# Altium footprint library JSM2512S05.PcbLib: 1 footprints
Each footprint in its own frame and in the unit in brackets; x right, y up, seen from the top. Pads: shape width x height; smd on the part's side, far side on the other; paste and mask are expansions set on the pad; w line width, h text height; cw(c..) or ccw(c..) is an arc to the next point about the centre after c.
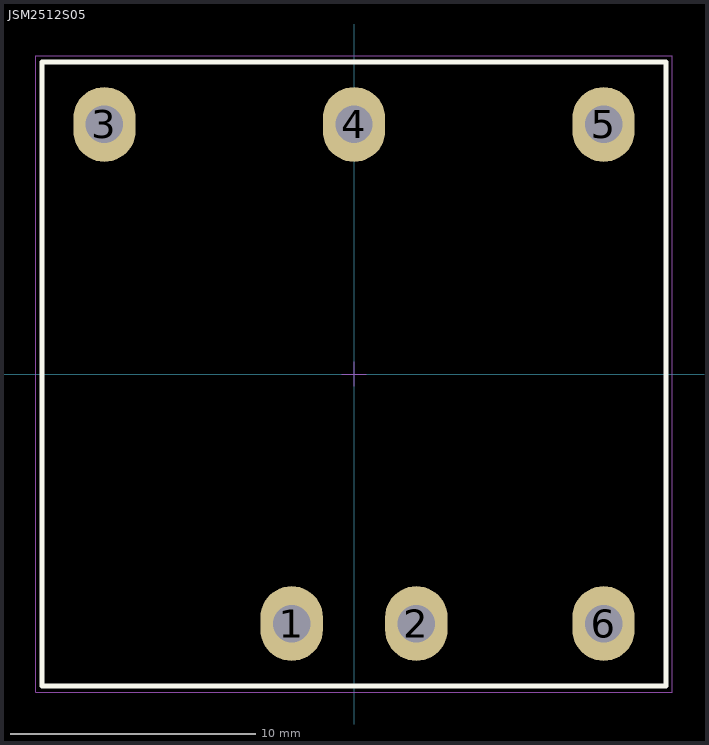
[diagram p0: the footprint, top view; thin cyan lines are the x and y axes]

## JSM2512S05 [mil]
pads (6):
  oval 100x120 hole 60: 1(-100,-400) 2(100,-400) 3(-400,400) 4(0,400) 5(400,400) 6(400,-400)
Top Overlay:
  lines w7.87: -500,-500 500,-500 500,500 -500,500 -500,-500
Mechanical 13:
  lines w3.94: -500,-500 -500,500 500,500 500,-500 -500,-500
Mechanical 15:
  lines w1.97: -19.68,0 19.68,0 ; 0,-19.68 0,19.68 ; -510,-510 510,-510 510,510 -510,510 -510,-510
3D body: height 400, standoff 20, extent -499.98,-499.98 499.98,499.98